# Altium schematic symbol library xb3-c-g1-ut-101.SchLib: 1 symbol
Pins are listed as number, name and electrical type; pins without a type are passive.

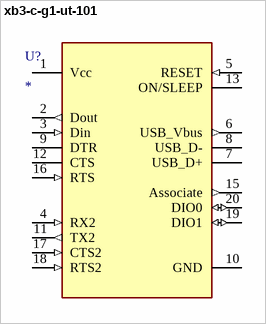
[diagram p0: symbol xb3-c-g1-ut-101]

## xb3-c-g1-ut-101
designator U?
Value: *
pins: 1 Vcc (power), 2 Dout (out), 3 Din (in), 4 RX2 (in), 5 RESET (in), 6 USB_Vbus (out), 7 USB_D+, 8 USB_D-, 9 DTR, 10 GND (power), 11 TX2 (out), 12 CTS, 13 ON/SLEEP, 15 Associate (out), 16 RTS (in), 17 CTS2 (in), 18 RTS2 (in), 19 DIO1 (io), 20 DIO0 (io)